# Altium footprint library 61201021721_mps.PcbLib: 1 footprints
Each footprint in its own frame and in the unit in brackets; x right, y up, seen from the top. Pads: shape width x height; smd on the part's side, far side on the other; paste and mask are expansions set on the pad; w line width, h text height; cw(c..) or ccw(c..) is an arc to the next point about the centre after c.
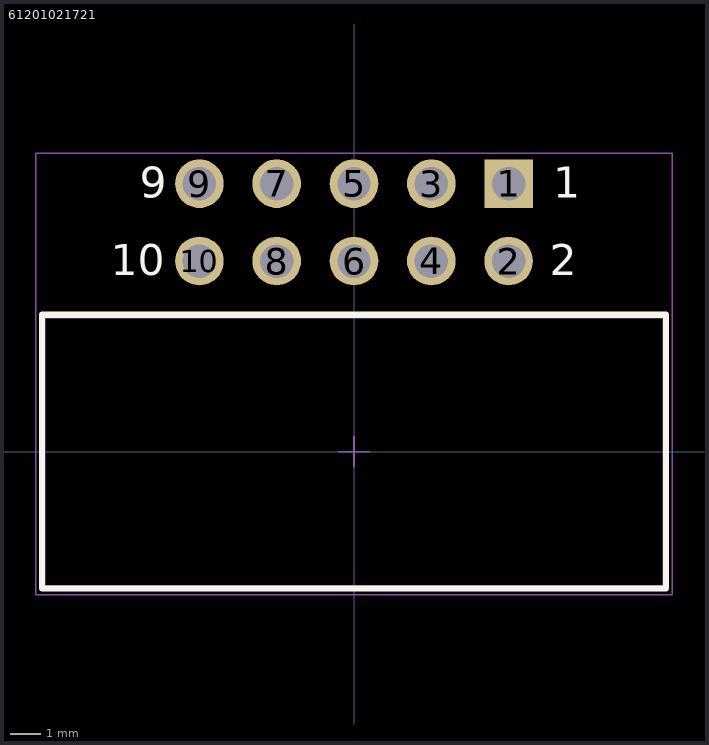
[diagram p0: the footprint, top view; thin cyan lines are the x and y axes]

## 61201021721 [mm] "10 pins, right angled, gold plating"
height 9.1
pads (10):
  rect 1.6x1.6 hole 1.1: 1(5.08,8.805)
  round 1.6 hole 1.1: 2(5.08,6.265) 3(2.54,8.805) 4(2.54,6.265) 5(0,8.805) 6(0,6.265) 7(-2.54,8.805) 8(-2.54,6.265) 9(-5.08,8.805) 10(-5.08,6.265)
Top Overlay:
  lines w0.2: -10.255,-4.5 10.255,-4.5 10.255,4.5 -10.255,4.5 -10.255,-4.5
  text "1" at 6.54,8.34 h1.02
  text "2" at 6.44,5.8 h1.02
  text "10" at -8,5.8 h1.02
  text "9" at -7.04,8.34 h1.02
Mechanical 13:
  lines w0.1: -10.18,-4.425 10.18,-4.425 10.18,4.425 -10.18,4.425 -10.18,-4.425
Mechanical 15:
  lines w0.05: -0.5,0 0.5,0 ; 0,-0.5 0,0.5 ; -10.455,-4.7 -10.455,9.805 10.455,9.805 10.455,-4.7 -10.455,-4.7
3D body "61201021721.stp": height 9.23, standoff -2.88, extent -10.18,-4.425 10.18,9.125